# Altium schematic symbol library JH_IC Logic.SchLib: 3 symbols
Pins are listed as number, name and electrical type; pins without a type are passive.

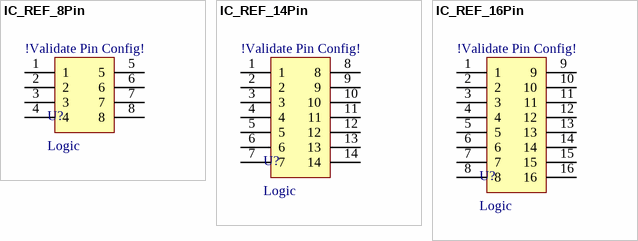
[diagram p0: symbols IC_REF_8Pin to IC_REF_16Pin]

## IC_REF_8Pin
designator U?, comment Logic
Distributor: Digikey; DistributorReference: *; InventoryNumber: *; PackageReference: *; ManufacturerReference: *
pins: 1, 2, 3, 4, 5, 6, 7, 8
text: !Validate Pin Config!

## IC_REF_14Pin
designator U?, comment Logic
Distributor: Digikey; DistributorReference: *; InventoryNumber: *; PackageReference: *; ManufacturerReference: *
pins: 1, 2, 3, 4, 5, 6, 7, 8, 9, 10, 11, 12, 13, 14
text: !Validate Pin Config!

## IC_REF_16Pin
designator U?, comment Logic
Distributor: Digikey; DistributorReference: *; InventoryNumber: *; PackageReference: *; ManufacturerReference: *
pins: 1, 2, 3, 4, 5, 6, 7, 8, 9, 10, 11, 12, 13, 14, 15, 16
text: !Validate Pin Config!